# Altium schematic symbol library UCC12041-Q1.Schlib: 1 symbol
Pins are listed as number, name and electrical type; pins without a type are passive.

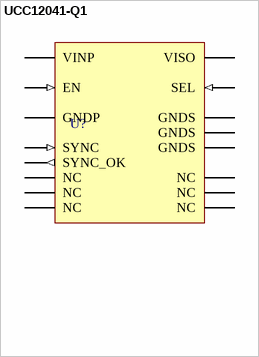
[diagram p0: symbol UCC12041-Q1]

## UCC12041-Q1
designator U?
High-Efficiency, Low-EMI, 3-kVRMS Basic Isolation DC/DC Converter
pins: 1 EN (in), 2 GNDP (power), 3 VINP (power), 4 SYNC (in), 5 SYNC_OK (out), 6 NC, 7 NC, 8 NC, 9 GNDS (power), 10 NC, 11 NC, 12 NC, 13 SEL (in), 14 VISO (power), 15 GNDS (power), 16 GNDS (power)